# Altium schematic symbol library IND0530.SchLib: 1 symbol
Pins are listed as number, name and electrical type; pins without a type are passive.

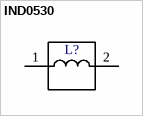
[diagram p0: symbol IND0530]

## IND0530
designator L?  (value not drawn)
footprint IND0530
pins: 1, 2